# EAGLE library part WS2801 (library worldsemi)
3-Channel Constant Current LED Driver With Programmable PWM Outputs Features: Supports both constant voltage and constant current drive mode Programmable constant LED drive current Wide constant output current range 5~150mA Build in PWM dimming scheme for each output channel, supports free-run, especially suitable for low cost controller application PWM free-run capability(refresh rate(2.5KHz) Build in buffers to cascading data and clock to the next driver Output polarity reverse function Support hot swap Maximum input clock frequency 25MHz Power supply voltage 3.3~5.5V Applications: LED decorative lighting Indoor/Outdoor LED video or massage display PWM signal generator LCD TV back lighting
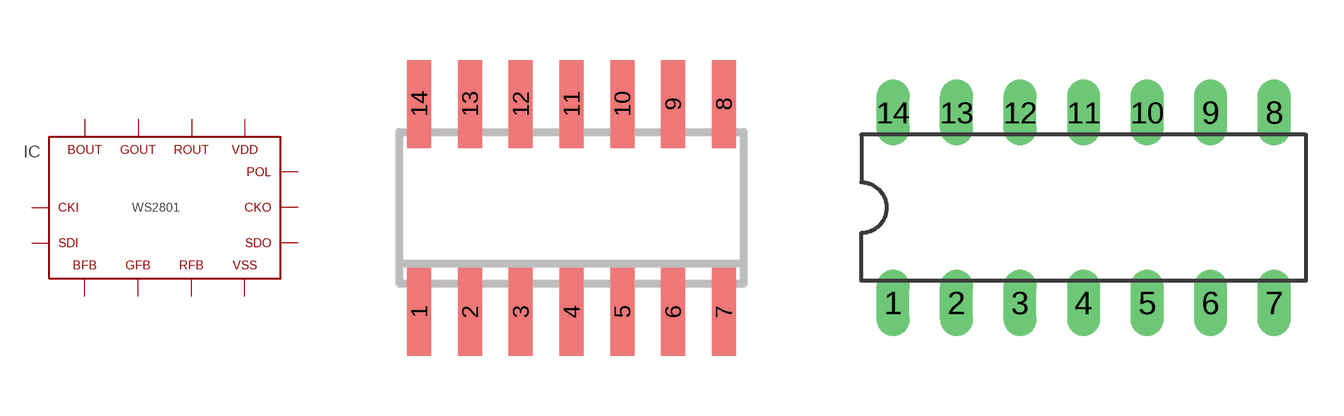
[diagram p1: symbol with the pads of SO-14; footprints SO-14, DIL14]

Designator prefix IC

## WS2801S  [SO-14]
1  CKI  in
2  SDI  in
3  POL
4  RFB
5  GFB
6  BFB
7  VSS  pwr
8  BOUT
9  GOUT
10  ROUT
12  SDO  out
13  CKO  out
14  VDD  pwr

## WS2801P  [DIL14]
Pads as for SO-14

## Footprint SO-14 (pad centres in mm)
Small Outline Narrow Plastic Gull Wing 150-mil body, package type SL
smd 0.6 x 2.2: 1 -3.81,-2.6; 2 -2.54,-2.6; 3 -1.27,-2.6; 4 0,-2.6; 5 1.27,-2.6; 6 2.54,-2.6; 7 3.81,-2.6; 8 3.81,2.6; 9 2.54,2.6; 10 1.27,2.6; 11 0,2.6; 12 -1.27,2.6; 13 -2.54,2.6; 14 -3.81,2.6

## Footprint DIL14 (pad centres in mm)
drill 0.813 long: 1 -7.62,-3.81; 2 -5.08,-3.81; 3 -2.54,-3.81; 4 0,-3.81; 5 2.54,-3.81; 6 5.08,-3.81; 7 7.62,-3.81; 8 7.62,3.81; 9 5.08,3.81; 10 2.54,3.81; 11 0,3.81; 12 -2.54,3.81; 13 -5.08,3.81; 14 -7.62,3.81